# Altium schematic symbol library VoltageRegulator.SchLib: 1 symbol
Pins are listed as number, name and electrical type; pins without a type are passive.

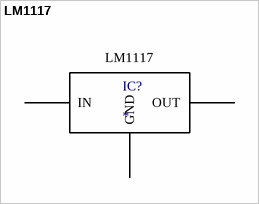
[diagram p0: symbol LM1117]

## LM1117
designator IC?
footprint TO-252
pins: 1 GND, 3 IN, 4 OUT